# EAGLE library part CONNECTOR_10 (library TD-MySensors)
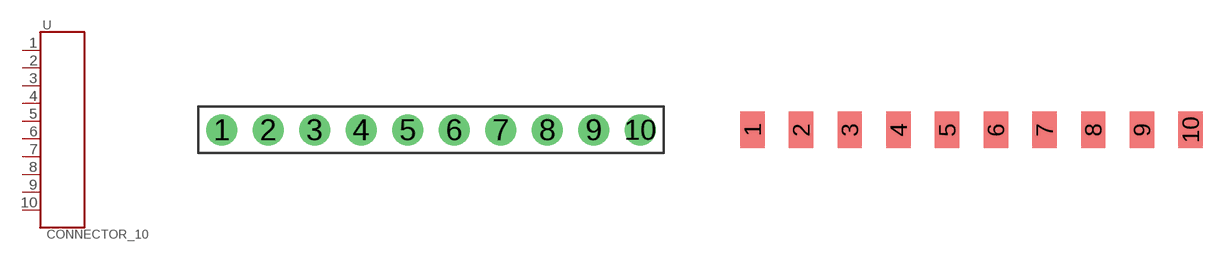
[diagram p12: symbol with the pads of DUPONT_10; footprints DUPONT_10, PAD_10]

Designator prefix -

## CONNECTOR_10DUPONT  [DUPONT_10]
1  1
2  2
3  3
4  4
5  5
6  6
7  7
8  8
9  9
10  10

## CONNECTOR_10PAD  [PAD_10]
Pads as for DUPONT_10

## CONNECTOR_10DUP_FEM90  [DUPONT_FEM90_10]
Pads as for DUPONT_10

## Footprint DUPONT_10 (pad centres in mm)
drill 1.016 pad 1.676: 1 1.27,1.27; 2 3.81,1.27; 3 6.35,1.27; 4 8.89,1.27; 5 11.43,1.27; 6 13.97,1.27; 7 16.51,1.27; 8 19.05,1.27; 9 21.59,1.27; 10 24.13,1.27

## Footprint PAD_10 (pad centres in mm)
Radio module based on the RFM69 chip from HopeRF
smd 1.27 x 1.905: 1 0,0; 2 2.54,0; 3 5.08,0; 4 7.62,0; 5 10.16,0; 6 12.7,0; 7 15.24,0; 8 17.78,0; 9 20.32,0; 10 22.86,0

## Footprint DUPONT_FEM90_10 (pad centres in mm)
drill 1.016 pad 1.676: 1 -11.43,0; 2 -8.89,0; 3 -6.35,0; 4 -3.81,0; 5 -1.27,0; 6 1.27,0; 7 3.81,0; 8 6.35,0; 9 8.89,0; 10 11.43,0